# Altium schematic symbol library A6983C50QTR.SchLib: 1 symbol
Pins are listed as number, name and electrical type; pins without a type are passive.

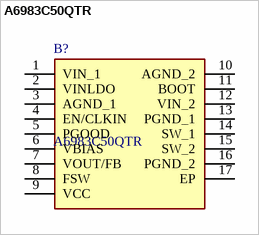
[diagram p0: symbol A6983C50QTR]

## A6983C50QTR
designator B?
Automotive-grade 38 V, 3 A synchronous step-down converter with 25 uA quiescent current; Manufacturer_Name: STMicroelectronics; Geometry.Height: 0.8mm; Manufacturer_Part_Number: A6983C50QTR; Mouser Part Number: 511-A6983C50QTR; Mouser Price/Stock: https://www.mouser.co.uk/ProductDetail/STMicroelectronics/A6983C50QTR?qs=rQFj71Wb1eXphuNT1rEzUA%3D%3D; Arrow Part Number: A6983C50QTR; Arrow Price/Stock: https://www.arrow.com/en/products/a6983c50qtr/stmicroelectronics?utm_currency=USD&region=nac; Datasheet Link: https://www.st.com/resource/en/datasheet/a6983.pdf
footprint A6983C50QTR
pins: 1 VIN_1, 2 VINLDO, 3 AGND_1, 4 EN/CLKIN, 5 PGOOD, 6 VBIAS, 7 VOUT/FB, 8 FSW, 9 VCC, 10 AGND_2, 11 BOOT, 12 VIN_2, 13 PGND_1, 14 SW_1, 15 SW_2, 16 PGND_2, 17 EP